# Altium schematic symbol library SCH - POWER - SWITCHMODE - TI TPS54340BDDA.SchLib: 1 symbol
Pins are listed as number, name and electrical type; pins without a type are passive.

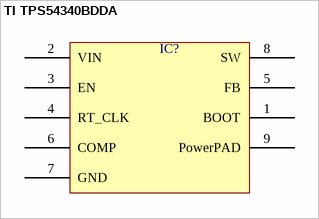
[diagram p0: symbol TI TPS54340BDDA]

## TI TPS54340BDDA
designator IC?  (value not drawn)
pins: 1 BOOT, 2 VIN, 3 EN, 4 RT_CLK, 5 FB, 6 COMP, 7 GND, 8 SW, 9 PowerPAD